# Altium integrated library CMS015.IntLib: 1 symbol
Pins are listed as number, name and electrical type; pins without a type are passive.

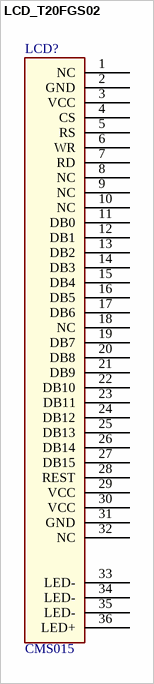
[diagram p0: symbol LCD_T20FGS02]

## LCD_T20FGS02
designator LCD?, comment CMS015
footprint LCD_T20FGS02
pins: 1 NC, 2 GND, 3 VCC, 4 CS, 5 RS, 6 WR, 7 RD, 8 NC, 9 NC, 10 NC, 11 DB0, 12 DB1, 13 DB2, 14 DB3, 15 DB4, 16 DB5, 17 DB6, 18 NC, 19 DB7, 20 DB8, 21 DB9, 22 DB10, 23 DB11, 24 DB12, 25 DB13, 26 DB14, 27 DB15, 28 REST, 29 VCC, 30 VCC, 31 GND, 32 NC, 33 LED-, 34 LED-, 35 LED-, 36 LED+